# EAGLE library part 418117170912 (library Wurth_Elektronik_Electromechanic_Switch_rev15d)
WS-BS 2.54 mm compact THT Dip Switch with flat actuator, 12 Pole
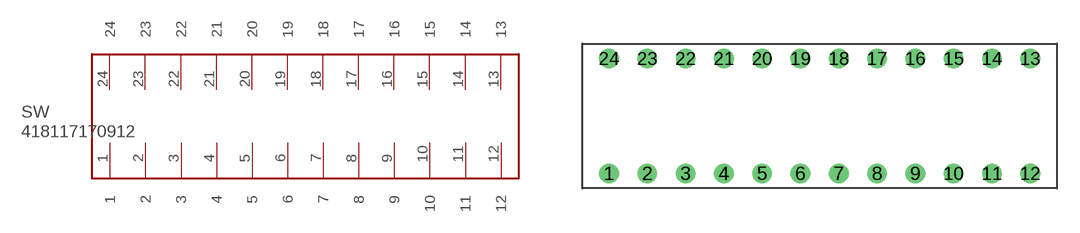
[diagram p74: symbol with the pads of 418117170912; footprint 418117170912]

Designator prefix SW

## 418117170912  [418117170912]
1  1
2  2
3  3
4  4
5  5
6  6
7  7
8  8
9  9
10  10
11  11
12  12
13  13
14  14
15  15
16  16
17  17
18  18
19  19
20  20
21  21
22  22
23  23
24  24

## Footprint 418117170912 (pad centres in mm)
WS-BS 2.54 mm compact THT Dip Switch with flat actuator, 12 Pole
drill 0.8: 1 -13.97,-3.81; 2 -11.43,-3.81; 3 -8.89,-3.81; 4 -6.35,-3.81; 5 -3.81,-3.81; 6 -1.27,-3.81; 7 1.27,-3.81; 8 3.81,-3.81; 9 6.35,-3.81; 10 8.89,-3.81; 11 11.43,-3.81; 12 13.97,-3.81; 13 13.97,3.81; 14 11.43,3.81; 15 8.89,3.81; 16 6.35,3.81; 17 3.81,3.81; 18 1.27,3.81; 19 -1.27,3.81; 20 -3.81,3.81; 21 -6.35,3.81; 22 -8.89,3.81; 23 -11.43,3.81; 24 -13.97,3.81